# EAGLE library part 615016149521 (library WR-MJ)
WR-MJ Cat 3 Modular Jacks – THT Characteristics Shieldingless and Shielded with EMI-Spring option Optional LEDs in various sequences Vertical and Horizontal orientation Stacked and assembled configurations Tray Packaging Properties PoE++ Compatible up to 100W (IEEE 802.3bt) UL and cULus-Certified UL94-V0 insulator material Ethernet Category 3 – Category 5 under conditions Applications Networks Internet of Things mart Buildings <https://www.we-online.com/components/media/o863419v209%20multi-WR-MJTH-615002138421.jpg> Details see: www.we-online.com/en/components/products/WR_MJ_MODULAR_JACKS_THT <www.we-online.com/catalog/WR_MJ_MODULAR_JACKS_THT/?utm_source=eagle_model&utm_medium=description_link&utm_campaign=eisos_eagle> Updated by Yingchun Shan 2020-01-06 2020(C) Würth Elektronik
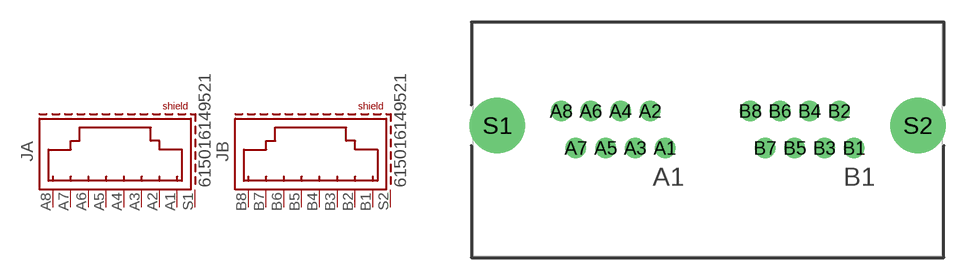
[diagram p31: symbol with the pads of 615016149521; footprint 615016149521]

Designator prefix J; gates A=8P8C_S B=8P8C_S

## 615016149521 (APPLICATION-SYSTEM: CAT 3; DATASHEET-URL: https://www.we-online.com/redexpert/spec/615016149521?ae; EMI: No; LED: /; MOUNT: THT; PART-NUMBER: 615016149521; SIZE: Horizontal; TAB: Up; VALUE: 615016149521; XPXC: 8P8C)  [615016149521]
A1  A:1  pas
A2  A:2  pas
A3  A:3  pas
A4  A:4  pas
A5  A:5  pas
A6  A:6  pas
A7  A:7  pas
A8  A:8  pas
B1  B:1  pas
B2  B:2  pas
B3  B:3  pas
B4  B:4  pas
B5  B:5  pas
B6  B:6  pas
B7  B:7  pas
B8  B:8  pas
S1  A:SHIELD  pas
S2  B:SHIELD  pas

## Footprint 615016149521 (pad centres in mm)
WR-MJ Modular Jack Horizontal Plastic 8P8C Assembly Tab Up
drill 0.9: A1 -2.93,-0.57; A2 -3.95,1.97; A3 -4.97,-0.57; A4 -5.99,1.97; A5 -7.01,-0.57; A6 -8.03,1.97; A7 -9.05,-0.57; A8 -10.07,1.97; B1 10.07,-0.57; B2 9.05,1.97; B3 8.03,-0.57; B4 7.01,1.97; B5 5.99,-0.57; B6 4.97,1.97; B7 3.95,-0.57; B8 2.93,1.97
drill 2.8: S1 -14.45,0.97; S2 14.45,0.97